# EAGLE library part LM124 (library LARS_409_MC3)
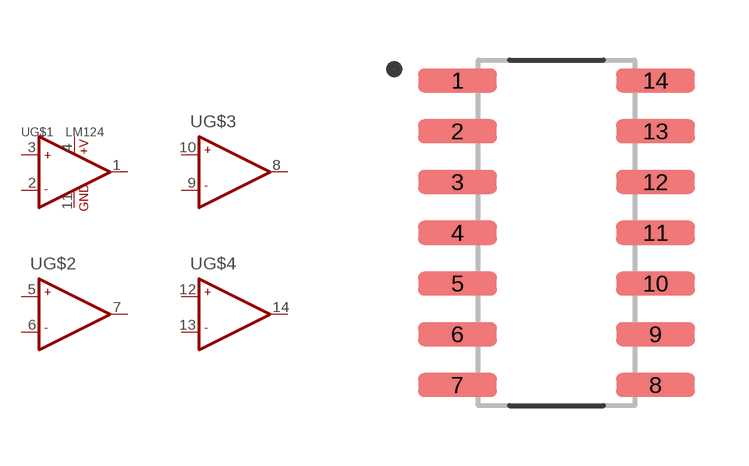
[diagram p2: symbol with the pads of SOIC-14; footprint SOIC-14]

Designator prefix U; gates G$1=OPAMP2 G$2=OPAMP1 G$3=OPAMP1 G$4=OPAMP1

## LM124  [SOIC-14]
1  G$1:OUT1  out
2  G$1:-IN1  in
3  G$1:+IN1  in
4  G$1:+V  pwr
5  G$2:+IN2  in
6  G$2:-IN2  in
7  G$2:OUT2  out
8  G$3:OUT2  out
9  G$3:-IN2  in
10  G$3:+IN2  in
11  G$1:GND  pwr
12  G$4:+IN2  in
13  G$4:-IN2  in
14  G$4:OUT2  out

## Footprint SOIC-14 (pad centres in mm)
14-SOIC, 1.27 mm pitch, 6.00 mm span, 9.90 X 3.90 X 1.75 mm body 14-pin SOIC package with 1.27 mm pitch, 6.00 mm span with body size 9.90 X 3.90 X 1.75 mm
smd 1.97 x 0.6: 1 -2.475,3.81; 2 -2.475,2.54; 3 -2.475,1.27; 4 -2.475,0; 5 -2.475,-1.27; 6 -2.475,-2.54; 7 -2.475,-3.81; 8 2.475,-3.81; 9 2.475,-2.54; 10 2.475,-1.27; 11 2.475,0; 12 2.475,1.27; 13 2.475,2.54; 14 2.475,3.81